# Altium schematic symbol library DS90LV018.SchLib: 1 symbol
Pins are listed as number, name and electrical type; pins without a type are passive.

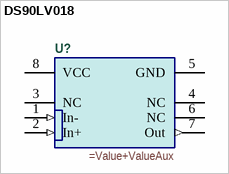
[diagram p0: symbol DS90LV018]

## DS90LV018
designator U?
=Description
pins: 1 In- (in), 2 In+ (in), 3 NC, 4 NC, 5 GND (power), 6 NC, 7 Out (out), 8 VCC (power)